# Altium footprint library RCDQLY.PCBLIB: 149 footprints (part 1 of 10)
Each footprint in its own frame and in the unit in brackets; x right, y up, seen from the top. Pads: shape width x height; smd on the part's side, far side on the other; paste and mask are expansions set on the pad; w line width, h text height; cw(c..) or ccw(c..) is an arc to the next point about the centre after c.
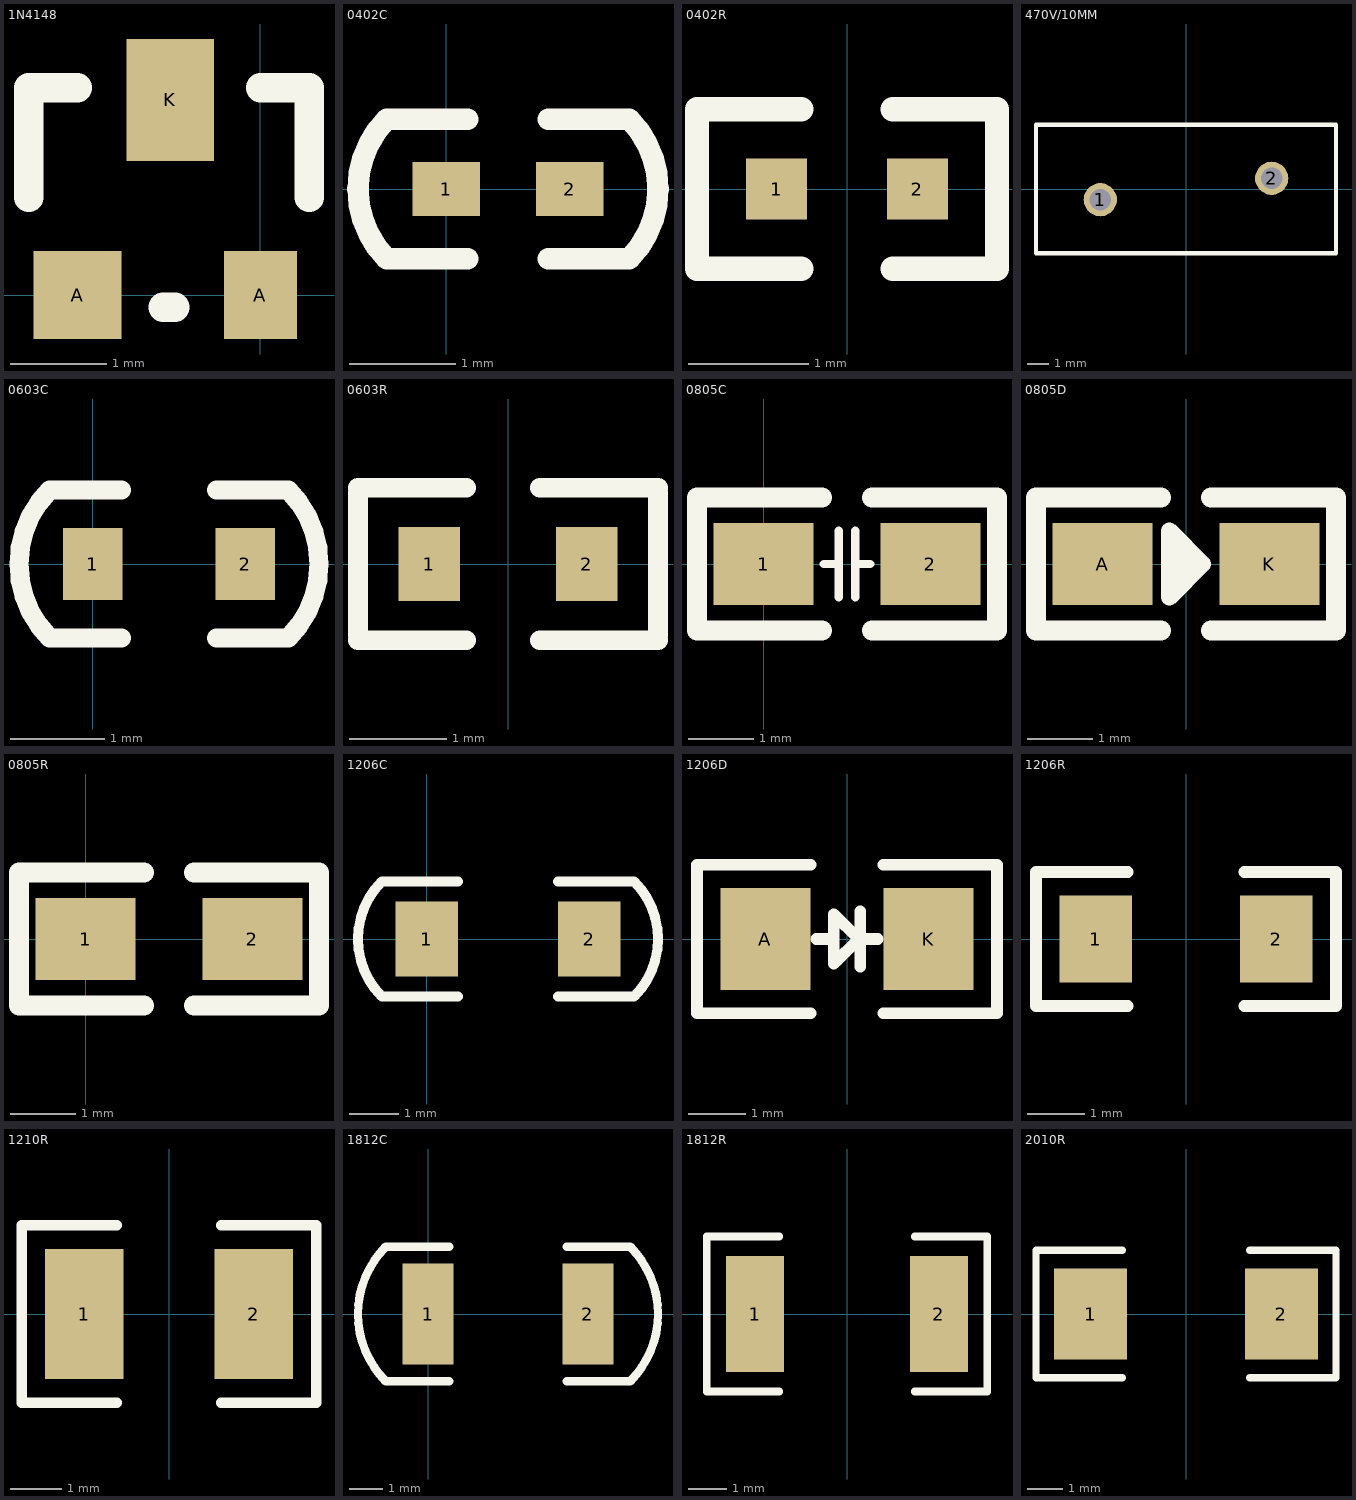
[diagram p0: the footprints below, top view; thin cyan lines are the x and y axes]

## 1N4148 [mil]
pads (3):
  rect 36x36 smd: A(-75,0)
  rect 30x36 smd: A(0,0)
  rect 36x50 smd: K(-37,80)
TopOverlay:
  lines w12: -95,40 -95,85 -75,85 ; -40,-5 -35,-5 ; 0,85 20,85 20,40

## 0402C [mil]
pads (2):
  rect 25x20 smd: 1(0,0) 2(46,0)
TopOverlay:
  lines w8: 8,-26 -22,-26 cw(c4,0) -22,26 8,26 ; 38,-26 68,-26 ccw(c42,0) 68,26 38,26

## 0402R [mil]
pads (2):
  rect 20x20 smd: 1(-23,0) 2(23,0)
TopOverlay:
  lines w8: -15,-26 -49,-26 -49,26 -15,26 ; 15,-26 49,-26 49,26 15,26

## 470V/10MM [mm]
pads (2):
  round 1.55 hole 1: 1(-4,-0.5) 2(4,0.5)
TopOverlay:
  lines w0.203: -7,-3 7,-3 7,3 -7,3 -7,-3

## 0603C [mil]
pads (2):
  rect 25x30 smd: 1(0,0) 2(64,0)
TopOverlay:
  lines w8: 12,-31 -18,-31 cw(c13,0) -18,31 12,31 ; 52,-31 82,-31 ccw(c51,0) 82,31 52,31

## 0603R [mil]
pads (2):
  rect 25x30 smd: 1(-32,0) 2(32,0)
TopOverlay:
  lines w8: -61,-31 -17,-31 ; -61,-29 -61,29 ; -61,31 -17,31 ; 13,-31 61,-31 ; 13,31 61,31 ; 61,-29 61,29

## 0805C [mil]
height 10
pads (2):
  rect 60x49.21 smd: 1(0,0) 2(100,0)
TopOverlay:
  lines w5: 36,0 45,0 ; 45,-20 45,20 ; 55,-20 55,20 ; 55,0 64,0
  lines w12: 35,-40 -40,-40 -40,40 35,40 ; 65,-40 140,-40 140,40 65,40

## 0805D [mil]
height 10
pads (2):
  rect 60x49.21 smd: A(-50,0) K(50,0)
TopOverlay:
  lines w10: -10,-10 -5,-10 0,-5 0,0 -3.96,3.96 -10,10 -10,20 ; -10,20 -10,-20 10,0 -10,20
  lines w12: -15,-40 -90,-40 -90,40 -15,40 ; 15,-40 90,-40 90,40 15,40

## 0805R [mil]
height 10
pads (2):
  rect 60x49.21 smd: 1(0,0) 2(100,0)
TopOverlay:
  lines w12: 35,-40 -40,-40 -40,40 35,40 ; 65,-40 140,-40 140,40 65,40

## 1206C [mil]
pads (2):
  rect 50x60 smd: 1(0,0) 2(130,0)
TopOverlay:
  lines w8: 25,-46 -36,-46 cw(c10,0) -36,46 25,46 ; 105,-46 166,-46 ccw(c120,0) 166,46 105,46

## 1206D [mil]
pads (2):
  rect 62x70 smd: A(-56,0) K(56,0)
TopOverlay:
  lines w8: -25,-51 -103,-51 -103,51 -25,51 ; -21,0 -9,0 ; 9,-19 9,19 ; 9,0 21,0 ; 25,-51 103,-51 103,51 25,51 ; -9,-17 -9,17 8,0 -9,-17

## 1206R [mil]
pads (2):
  rect 50x60 smd: 1(-62,0) 2(62,0)
TopOverlay:
  lines w8: -40,-46 -103,-46 -103,46 -40,46 ; 40,-46 103,-46 103,46 40,46

## 1210R [mil]
pads (2):
  rect 60x100 smd: 1(-65,0) 2(65,0)
TopOverlay:
  lines w8: -40,-68 -113,-68 -113,68 -40,68 ; 40,-68 113,-68 113,68 40,68

## 1812C [mil]
pads (2):
  rect 60x120 smd: 1(0,0) 2(190,0)
TopOverlay:
  lines w10: 25,-80 -50,-80 cw(c30,0) -50,80 25,80 ; 165,-80 240,-80 ccw(c160,0) 240,80 165,80

## 1812R [mil]
pads (2):
  rect 60x120 smd: 1(-95,0) 2(95,0)
TopOverlay:
  lines w8: -70,-80 -145,-80 -145,80 -70,80 ; 70,-80 145,-80 145,80 70,80

## 2010R [mil]
pads (2):
  rect 80x100 smd: 1(-105,0) 2(105,0)
TopOverlay:
  lines w8: -70,-70 -165,-70 -165,70 -70,70 ; 70,-70 165,-70 165,70 70,70